# EAGLE library part 615008144221 (library Wuerth_Elektronik_eiCan_Modular_Jack_Connectors_v1.1)
WR-MJ Vertical Plastic 8P8C Modular Jack With Ears, 8 pins
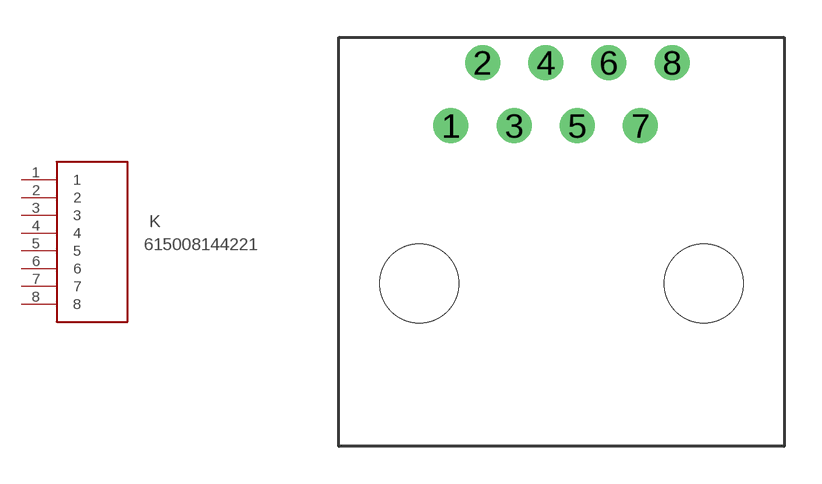
[diagram p27: symbol with the pads of 615008144221; footprint 615008144221]

Designator prefix K

## 615008144221  [615008144221]
1  1  pas
2  2  pas
3  3  pas
4  4  pas
5  5  pas
6  6  pas
7  7  pas
8  8  pas

## Footprint 615008144221 (pad centres in mm)
WR-MJ Vertical Plastic 8P8C Modular Jack With Ears, 8 pins
drill 0.9 round: 1 -4.445,-1.27; 2 -3.175,1.27; 3 -1.905,-1.27; 4 -0.635,1.27; 5 0.635,-1.27; 6 1.905,1.27; 7 3.175,-1.27; 8 4.445,1.27
hole 3.17 at -5.715,-7.62
hole 3.17 at 5.715,-7.62